# Altium footprint library DXPpcb.PCBLIB: 575 footprints (part 6 of 36)
Each footprint in its own frame and in the unit in brackets; x right, y up, seen from the top. Pads: shape width x height; smd on the part's side, far side on the other; paste and mask are expansions set on the pad; w line width, h text height; cw(c..) or ccw(c..) is an arc to the next point about the centre after c.
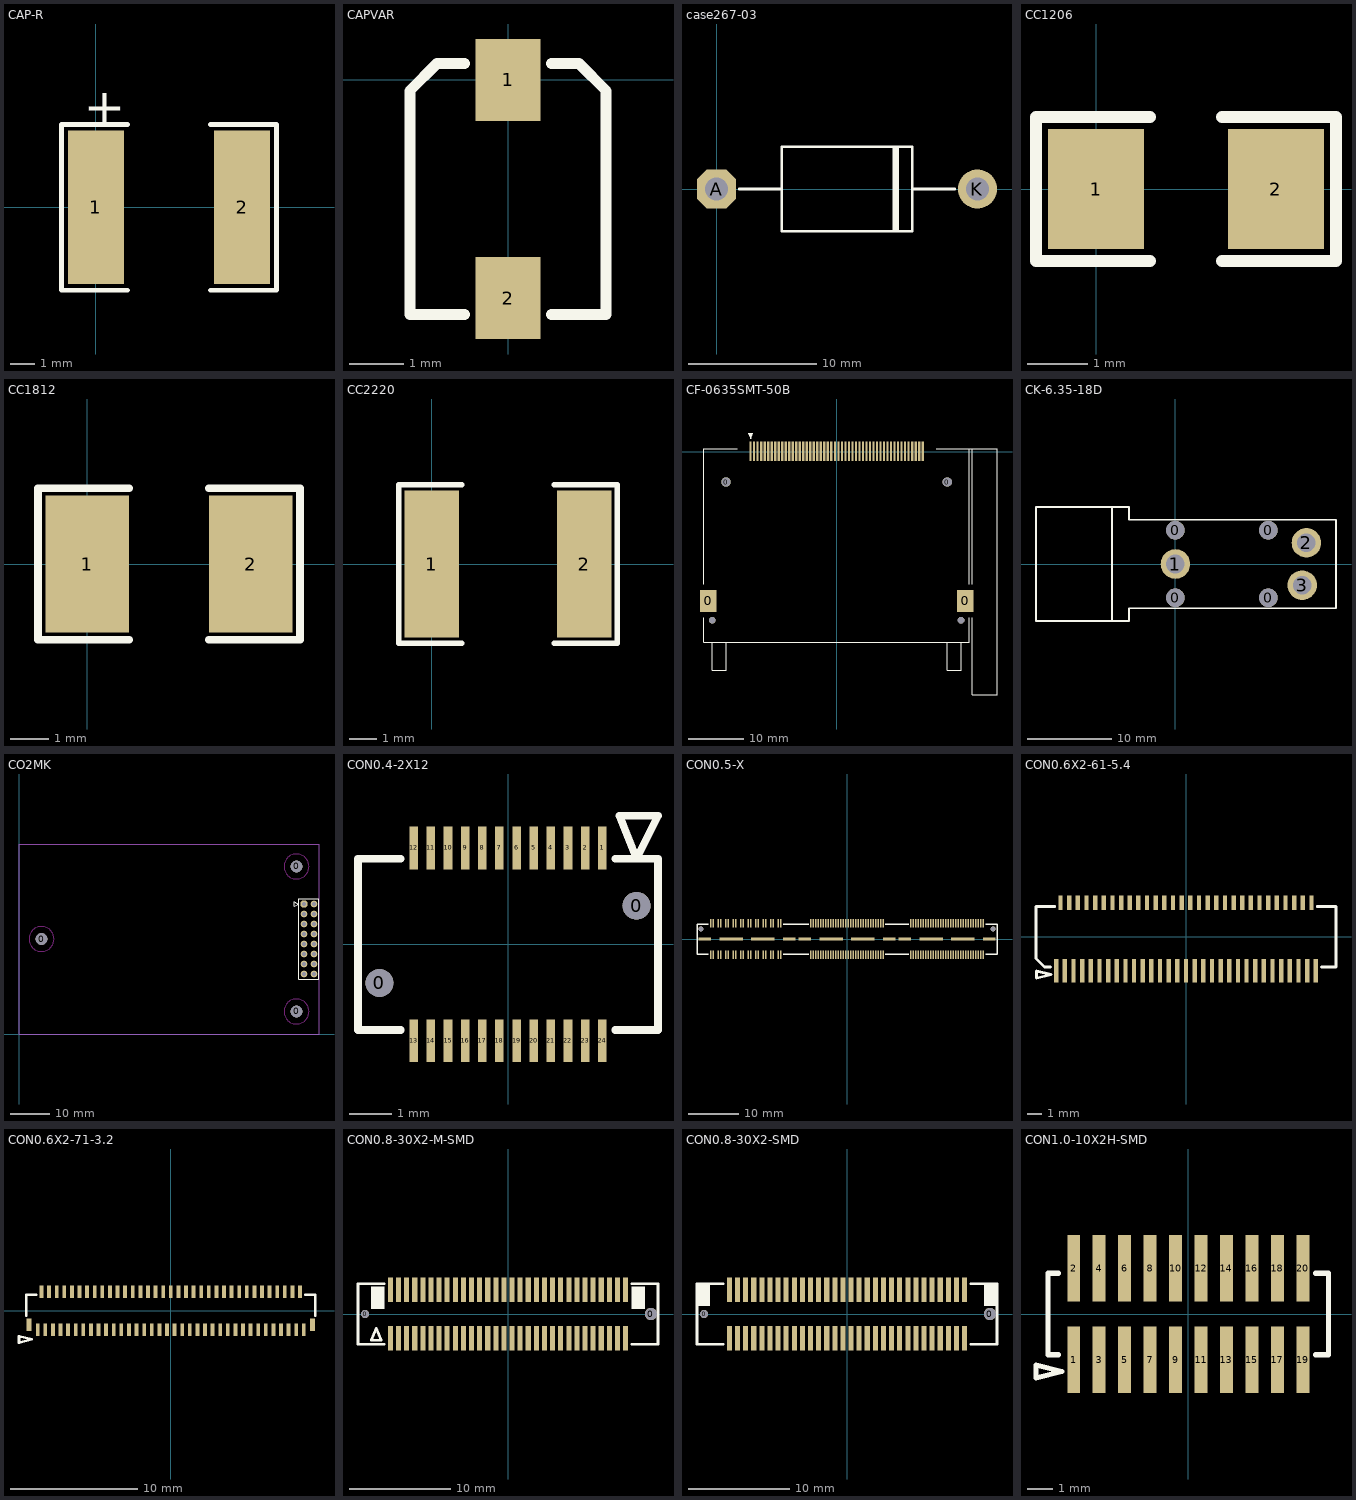
[diagram p5: the footprints below, top view; thin cyan lines are the x and y axes]

## CAP-R [mm]
pads (2):
  rect 2.3x6.3 smd: 1(0,0) 2(6,0)
TopOverlay:
  lines w0.2: 1.3,-3.4 -1.4,-3.4 -1.4,3.4 1.3,3.4 ; 4.7,-3.4 7.4,-3.4 7.4,3.4 4.7,3.4
  text "+" at -0.5,3.4 h1.5

## CAPVAR [mm]
pads (2):
  rect 1.2x1.5 smd: 1(0,0) 2(0,-4)
TopOverlay:
  lines w0.2: -0.8,-4.3 -1.8,-4.3 -1.8,-0.2 -1.3,0.3 -0.8,0.3 ; 0.8,-4.3 1.8,-4.3 1.8,-0.2 1.3,0.3 0.8,0.3

## case267-03 [mil]
pads (2):
  oct 120x120 hole 70: A(0,0)
  round 120 hole 70: K(800,0)
TopOverlay:
  rectangle: 540,-130 560,130
  lines w7.87: 70,0 200,0 ; 600,0 730,0 ; 200,-130 200,130 600,130 600,-130 200,-130

## CC1206 [mm]
pads (2):
  rect 1.6x2 smd: 1(0,0) 2(3,0)
TopOverlay:
  lines w0.2: 0.9,-1.2 -1,-1.2 -1,1.2 0.9,1.2 ; 2.1,-1.2 4,-1.2 4,1.2 2.1,1.2

## CC1812 [mm]
pads (2):
  rect 2.2x3.6 smd: 1(0,0) 2(4.3,0)
TopOverlay:
  lines w0.2: 1.1,-2 -1.3,-2 -1.3,2 1.1,2 ; 3.2,-2 5.6,-2 5.6,2 3.2,2

## CC2220 [mm]
pads (2):
  rect 2x5.4 smd: 1(0,0) 2(5.6,0)
TopOverlay:
  lines w0.2: 1.1,-2.9 -1.2,-2.9 -1.2,2.9 1.1,2.9 ; 4.5,-2.9 6.8,-2.9 6.8,2.9 4.5,2.9

## CF-0635SMT-50B [mil]
pads (56):
  rect 118.11x157.48 smd: 0(-915.35,-1062.99) 0(915.35,-1062.99)
  round 47.24 hole 47.24: 0(-885.83,-1200.79) 0(885.83,-1200.79)
  round 66.93 hole 66.93: 0(-787.4,-216.54) 0(787.4,-216.54)
  rect 16x138 smd: 1(-612.5,3.12) 2(-562.5,3.13) 3(-512.5,3.13) 4(-462.5,3.13) 5(-412.5,3.13) 6(-362.5,3.13) 7(-312.5,3.13) 8(-262.5,3.13) 9(-212.5,3.13) 10(-162.5,3.13) 11(-112.5,3.13) 12(-62.5,3.13) 13(-12.5,3.13) 14(37.5,3.13) 15(87.5,3.13) 16(137.5,3.13) 17(187.5,3.13) 18(237.5,3.13) 19(287.5,3.13) 20(337.5,3.13) 21(387.5,3.13) 22(437.5,3.13) 23(487.5,3.13) 24(537.5,3.13) 25(587.5,3.13) 26(-587.5,3.13) 27(-537.5,3.13) 28(-487.5,3.13) 29(-437.5,3.13) 30(-387.5,3.13) 31(-337.5,3.13) 32(-287.5,3.13) 33(-237.5,3.13) 34(-187.5,3.13) 35(-137.5,3.13) 36(-87.5,3.13) 37(-37.5,3.13) 38(12.5,3.13) 39(62.5,3.13) 40(112.5,3.13) 41(162.5,3.13) 42(212.5,3.13) 43(262.5,3.13) 44(312.5,3.13) 45(362.5,3.13) 46(412.5,3.13) 47(462.5,3.13) 48(512.5,3.13) 49(562.5,3.13) 50(612.5,3.12)
TopOverlay:
  lines w7.87: -944.88,-1181.1 -944.88,-1358.27 944.88,-1358.27 944.88,-1181.1 ; -944.88,-944.88 -944.88,19.68 -708.66,19.68 ; -885.83,-1358.27 -885.83,-1555.12 -787.4,-1555.12 -787.4,-1358.27 ; -620.37,131.87 -616.44,108.24 ; -612.5,131.87 -612.5,92.5 ; -608.56,112.18 -604.63,131.87 ; 708.66,19.68 944.88,19.68 ; 787.4,-1358.27 787.4,-1555.12 885.83,-1555.12 885.83,-1358.27 ; 944.88,-944.88 944.88,19.68 ; 964.57,-1181.1 964.57,-1732.28 1141.73,-1732.28 1141.73,19.68 944.88,19.68 ; 964.57,-944.88 964.57,19.68 ; -612.5,92.5 -596.75,131.87 -628.25,131.87 -612.5,92.5

## CK-6.35-18D [mm]
pads (7):
  round 2.2 hole 2.2: 0(0,-4) 0(0,4) 0(11,-4) 0(11,4)
  round 3.5 hole 2.2: 1(0,0) 2(15.5,2.5) 3(15,-2.5)
TopOverlay:
  lines w0.2: -7.5,-6.75 -7.5,6.75 ; -1.5,-0.5 -1,-0.5 -1,0.5 -1.5,0.5 ; -16.5,-6.75 -16.5,6.75 -5.5,6.75 -5.5,5.25 19,5.25 19,-5.25 -5.5,-5.25 -5.5,-6.75 -16.5,-6.75

## CO2MK [mm]
pads (19):
  round 3 hole 3: 0(5.715,24.13) 0(70.485,5.715) 0(70.485,42.545)
  oct 1.7x1.7 hole 1: 1(72.39,33.02)
  round 1.7 hole 1: 2(74.93,33.02) 3(72.39,30.48) 4(74.93,30.48) 5(72.39,27.94) 6(74.93,27.94) 7(72.39,25.4) 8(74.93,25.4) 9(72.39,22.86) 10(74.93,22.86) 11(72.39,20.32) 12(74.93,20.32) 13(72.39,17.78) 14(74.93,17.78) 15(72.39,15.24) 16(74.93,15.24)
TopOverlay:
  lines w0.2: 69.85,32.512 70.866,33.02 69.85,33.528 69.85,32.512 ; 71.09,13.94 76.19,13.94 76.19,34.32 71.09,34.32 71.09,13.94
KeepOutLayer:
  circle w0.2: c5.715,24.13 r3.175
  circle w0.2: c70.485,5.715 r3.175
  circle w0.2: c70.485,42.545 r3.175
Mechanical3:
  lines w0.2: 0,0 76.2,0 76.2,48.26 0,48.26 0,0

## CON0.4-2X12 [mm]
pads (26):
  round 0.65 hole 0.65: 0(-3,-0.9) 0(3,0.9)
  rect 0.2x1 smd: 1(2.2,2.25) 2(1.8,2.25) 3(1.4,2.25) 4(1,2.25) 5(0.6,2.25) 6(0.2,2.25) 7(-0.2,2.25) 8(-0.6,2.25) 9(-1,2.25) 10(-1.4,2.25) 11(-1.8,2.25) 12(-2.2,2.25) 13(-2.2,-2.25) 14(-1.8,-2.25) 15(-1.4,-2.25) 16(-1,-2.25) 17(-0.6,-2.25) 18(-0.2,-2.25) 19(0.2,-2.25) 20(0.6,-2.25) 21(1,-2.25) 22(1.4,-2.25) 23(1.8,-2.25) 24(2.2,-2.25)
TopOverlay:
  lines w0.18: -2.5,-2 -3.5,-2 -3.5,2 -2.5,2 ; 2.5,-2 3.5,-2 3.5,2 2.5,2 ; 2.6,3 3,2 3.5,3 2.6,3

## CON0.5-X [mm]
pads (174):
  rect 0.3x1.7 smd: 1(-27.25,3.15) 2(-27.25,-3.15) 3(-26.75,3.15) 4(-26.75,-3.15) 5(-25.75,3.15) 6(-25.75,-3.15) 7(-25.25,3.15) 8(-25.25,-3.15) 9(-24.25,3.15) 10(-24.25,-3.15) 11(-23.75,3.15) 12(-23.75,-3.15) 13(-22.75,3.15) 14(-22.75,-3.15) 15(-22.25,3.15) 16(-22.25,-3.15) 17(-21.25,3.15) 18(-21.25,-3.15) 19(-20.75,3.15) 20(-20.75,-3.15) 21(-19.75,3.15) 22(-19.75,-3.15) 23(-19.25,3.15) 24(-19.25,-3.15) 25(-18.25,3.15) 26(-18.25,-3.15) 27(-17.75,3.15) 28(-17.75,-3.15) 29(-16.75,3.15) 30(-16.75,-3.15) 31(-16.25,3.15) 32(-16.25,-3.15) 33(-15.25,3.15) 34(-15.25,-3.15) 35(-14.75,3.15) 36(-14.75,-3.15) 37(-13.75,3.15) 38(-13.75,-3.15) 39(-13.25,3.15) 40(-13.25,-3.15) 41(-7.25,3.15) 42(-7.25,-3.15) 43(-6.75,3.15) 44(-6.75,-3.15) 45(-6.25,3.15) 46(-6.25,-3.15) 47(-5.75,3.15) 48(-5.75,-3.15) 49(-5.25,3.15) 50(-5.25,-3.15) 51(-4.75,3.15) 52(-4.75,-3.15) 53(-4.25,3.15) 54(-4.25,-3.15) 55(-3.75,3.15) 56(-3.75,-3.15) 57(-3.25,3.15) 58(-3.25,-3.15) 59(-2.75,3.15) 60(-2.75,-3.15) 61(-2.25,3.15) 62(-2.25,-3.15) 63(-1.75,3.15) 64(-1.75,-3.15) 65(-1.25,3.15) 66(-1.25,-3.15) 67(-0.75,3.15) 68(-0.75,-3.15) 69(-0.25,3.15) 70(-0.25,-3.15) 71(0.25,3.15) 72(0.25,-3.15) 73(0.75,3.15) 74(0.75,-3.15) 75(1.25,3.15) 76(1.25,-3.15) 77(1.75,3.15) 78(1.75,-3.15) 79(2.25,3.15) 80(2.25,-3.15) 81(2.75,3.15) 82(2.75,-3.15) 83(3.25,3.15) 84(3.25,-3.15) 85(3.75,3.15) 86(3.75,-3.15) 87(4.25,3.15) 88(4.25,-3.15) 89(4.75,3.15) 90(4.75,-3.15) 91(5.25,3.15) 92(5.25,-3.15) 93(5.75,3.15) 94(5.75,-3.15) 95(6.25,3.15) 96(6.25,-3.15) 97(6.75,3.15) 98(6.75,-3.15) 99(7.25,3.15) 100(7.25,-3.15) 101(12.75,3.15) 102(12.75,-3.15) 103(13.25,3.15) 104(13.25,-3.15) 105(13.75,3.15) 106(13.75,-3.15) 107(14.25,3.15) 108(14.25,-3.15) 109(14.75,3.15) 110(14.75,-3.15) 111(15.25,3.15) 112(15.25,-3.15) 113(15.75,3.15) 114(15.75,-3.15) 115(16.25,3.15) 116(16.25,-3.15) 117(16.75,3.15) 118(16.75,-3.15) 119(17.25,3.15) 120(17.25,-3.15) 121(17.75,3.15) 122(17.75,-3.15) 123(18.25,3.15) 124(18.25,-3.15) 125(18.75,3.15) 126(18.75,-3.15) 127(19.25,3.15) 128(19.25,-3.15) 129(19.75,3.15) 130(19.75,-3.15) 131(20.25,3.15) 132(20.25,-3.15) 133(20.75,3.15) 134(20.75,-3.15) 135(21.25,3.15) 136(21.25,-3.15) 137(21.75,3.15) 138(21.75,-3.15) 139(22.25,3.15) 140(22.25,-3.15) 141(22.75,3.15) 142(22.75,-3.15) 143(23.25,3.15) 144(23.25,-3.15) 145(23.75,3.15) 146(23.75,-3.15) 147(24.25,3.15) 148(24.25,-3.15) 149(24.75,3.15) 150(24.75,-3.15) 151(25.25,3.15) 152(25.25,-3.15) 153(25.75,3.15) 154(25.75,-3.15) 155(26.25,3.15) 156(26.25,-3.15) 157(26.75,3.15) 158(26.75,-3.15) 159(27.25,3.15) 160(27.25,-3.15)
  rect 2.54x0.64 smd: 161(-28.445,0) 164(-11.555,0) 165(-8.445,0) 168(8.445,0) 169(11.555,0) 172(28.445,0)
  rect 4.7x0.64 smd: 162(-23.175,0) 163(-16.825,0) 166(-3.175,0) 167(3.175,0) 170(16.825,0) 171(23.175,0)
  round 1 hole 1: 173(-29.24,2.03) 174(29.24,2.03)
TopOverlay:
  lines w0.254: -27.8,-3 -30,-3 -30,3 -27.8,3 ; -12.8,-3 -7.7,-3 ; -12.8,3 -7.7,3 ; 7.7,-3 12.3,-3 ; 7.7,3 12.3,3 ; 27.8,-3 30,-3 30,3 27.8,3

## CON0.6X2-61-5.4 [mm]
pads (61):
  rect 0.3x1.6 smd: 1(-9,-2.35) 3(-8.4,-2.35) 5(-7.8,-2.35) 7(-7.2,-2.35) 9(-6.6,-2.35) 11(-6,-2.35) 13(-5.4,-2.35) 15(-4.8,-2.35) 17(-4.2,-2.35) 19(-3.6,-2.35) 21(-3,-2.35) 23(-2.4,-2.35) 25(-1.8,-2.35) 27(-1.2,-2.35) 29(-0.6,-2.35) 31(0,-2.35) 33(0.6,-2.35) 35(1.2,-2.35) 37(1.8,-2.35) 39(2.4,-2.35) 41(3,-2.35) 43(3.6,-2.35) 45(4.2,-2.35) 47(4.8,-2.35) 49(5.4,-2.35) 51(6,-2.35) 53(6.6,-2.35) 55(7.2,-2.35) 57(7.8,-2.35) 59(8.4,-2.35) 61(9,-2.35)
  rect 0.3x1 smd: 2(-8.7,2.35) 4(-8.1,2.35) 6(-7.5,2.35) 8(-6.9,2.35) 10(-6.3,2.35) 12(-5.7,2.35) 14(-5.1,2.35) 16(-4.5,2.35) 18(-3.9,2.35) 20(-3.3,2.35) 22(-2.7,2.35) 24(-2.1,2.35) 26(-1.5,2.35) 28(-0.9,2.35) 30(-0.3,2.35) 32(0.3,2.35) 34(0.9,2.35) 36(1.5,2.35) 38(2.1,2.35) 40(2.7,2.35) 42(3.3,2.35) 44(3.9,2.35) 46(4.5,2.35) 48(5.1,2.35) 50(5.7,2.35) 52(6.3,2.35) 54(6.9,2.35) 56(7.5,2.35) 58(8.1,2.35) 60(8.7,2.35)
TopOverlay:
  lines w0.2: -9.4,-2.1 -9.8,-2.1 -10.4,-1.5 -10.4,2.1 -9.1,2.1 ; 9.1,2.1 10.4,2.1 10.4,-2.1 9.4,-2.1 ; -10.378,-2.866 -9.362,-2.612 -10.378,-2.358 -10.378,-2.866

## CON0.6X2-71-3.2 [mm]
pads (73):
  rect 0.4x1 smd: 0(-11.2,-1.1) 0(11.2,-1.1)
  rect 0.3x1 smd: 1(-10.5,-1.5) 2(-10.2,1.5) 3(-9.9,-1.5) 4(-9.6,1.5) 5(-9.3,-1.5) 6(-9,1.5) 7(-8.7,-1.5) 8(-8.4,1.5) 9(-8.1,-1.5) 10(-7.8,1.5) 11(-7.5,-1.5) 12(-7.2,1.5) 13(-6.9,-1.5) 14(-6.6,1.5) 15(-6.3,-1.5) 16(-6,1.5) 17(-5.7,-1.5) 18(-5.4,1.5) 19(-5.1,-1.5) 20(-4.8,1.5) 21(-4.5,-1.5) 22(-4.2,1.5) 23(-3.9,-1.5) 24(-3.6,1.5) 25(-3.3,-1.5) 26(-3,1.5) 27(-2.7,-1.5) 28(-2.4,1.5) 29(-2.1,-1.5) 30(-1.8,1.5) 31(-1.5,-1.5) 32(-1.2,1.5) 33(-0.9,-1.5) 34(-0.6,1.5) 35(-0.3,-1.5) 36(0,1.5) 37(0.3,-1.5) 38(0.6,1.5) 39(0.9,-1.5) 40(1.2,1.5) 41(1.5,-1.5) 42(1.8,1.5) 43(2.1,-1.5) 44(2.4,1.5) 45(2.7,-1.5) 46(3,1.5) 47(3.3,-1.5) 48(3.6,1.5) 49(3.9,-1.5) 50(4.2,1.5) 51(4.5,-1.5) 52(4.8,1.5) 53(5.1,-1.5) 54(5.4,1.5) 55(5.7,-1.5) 56(6,1.5) 57(6.3,-1.5) 58(6.6,1.5) 59(6.9,-1.5) 60(7.2,1.5) 61(7.5,-1.5) 62(7.8,1.5) 63(8.1,-1.5) 64(8.4,1.5) 65(8.7,-1.5) 66(9,1.5) 67(9.3,-1.5) 68(9.6,1.5) 69(9.9,-1.5) 70(10.2,1.5) 71(10.5,-1.5)
TopOverlay:
  lines w0.2: -11.4,-0.4 -11.4,1.25 -10.6,1.25 ; 10.6,1.25 11.4,1.25 11.4,-0.4 ; -11.978,-2.516 -11.978,-2.008 -10.962,-2.262 -11.978,-2.516

## CON0.8-30X2-M-SMD [mm]
pads (62):
  round 0.8 hole 0.8: 0(-14.1,0)
  round 1.2 hole 1.2: 0(14.1,0)
  rect 0.5x2.4 smd: 1(-11.6,-2.4) 2(-11.6,2.4) 3(-10.8,-2.4) 4(-10.8,2.4) 5(-10,-2.4) 6(-10,2.4) 7(-9.2,-2.4) 8(-9.2,2.4) 9(-8.4,-2.4) 10(-8.4,2.4) 11(-7.6,-2.4) 12(-7.6,2.4) 13(-6.8,-2.4) 14(-6.8,2.4) 15(-6,-2.4) 16(-6,2.4) 17(-5.2,-2.4) 18(-5.2,2.4) 19(-4.4,-2.4) 20(-4.4,2.4) 21(-3.6,-2.4) 22(-3.6,2.4) 23(-2.8,-2.4) 24(-2.8,2.4) 25(-2,-2.4) 26(-2,2.4) 27(-1.2,-2.4) 28(-1.2,2.4) 29(-0.4,-2.4) 30(-0.4,2.4) 31(0.4,-2.4) 32(0.4,2.4) 33(1.2,-2.4) 34(1.2,2.4) 35(2,-2.4) 36(2,2.4) 37(2.8,-2.4) 38(2.8,2.4) 39(3.6,-2.4) 40(3.6,2.4) 41(4.4,-2.4) 42(4.4,2.4) 43(5.2,-2.4) 44(5.2,2.4) 45(6,-2.4) 46(6,2.4) 47(6.8,-2.4) 48(6.8,2.4) 49(7.6,-2.4) 50(7.6,2.4) 51(8.4,-2.4) 52(8.4,2.4) 53(9.2,-2.4) 54(9.2,2.4) 55(10,-2.4) 56(10,2.4) 57(10.8,-2.4) 58(10.8,2.4) 59(11.6,-2.4) 60(11.6,2.4)
TopOverlay:
  rectangle: 12.2,0.5 13.5,2.7
  rectangle: -13.5,0.5 -12.2,2.7
  lines w0.254: -12.2,-3 -14.8,-3 -14.8,3 -12.2,3 ; 12.2,-3 14.8,-3 14.8,3 12.2,3 ; -13.5,-2.6 -12.5,-2.6 -13,-1.4 -13.5,-2.6

## CON0.8-30X2-SMD [mm]
pads (62):
  round 0.8 hole 0.8: 0(-14.1,0)
  round 1.2 hole 1.2: 0(14.1,0)
  rect 0.5x2.4 smd: 1(-11.6,2.4) 2(-11.6,-2.4) 3(-10.8,2.4) 4(-10.8,-2.4) 5(-10,2.4) 6(-10,-2.4) 7(-9.2,2.4) 8(-9.2,-2.4) 9(-8.4,2.4) 10(-8.4,-2.4) 11(-7.6,2.4) 12(-7.6,-2.4) 13(-6.8,2.4) 14(-6.8,-2.4) 15(-6,2.4) 16(-6,-2.4) 17(-5.2,2.4) 18(-5.2,-2.4) 19(-4.4,2.4) 20(-4.4,-2.4) 21(-3.6,2.4) 22(-3.6,-2.4) 23(-2.8,2.4) 24(-2.8,-2.4) 25(-2,2.4) 26(-2,-2.4) 27(-1.2,2.4) 28(-1.2,-2.4) 29(-0.4,2.4) 30(-0.4,-2.4) 31(0.4,2.4) 32(0.4,-2.4) 33(1.2,2.4) 34(1.2,-2.4) 35(2,2.4) 36(2,-2.4) 37(2.8,2.4) 38(2.8,-2.4) 39(3.6,2.4) 40(3.6,-2.4) 41(4.4,2.4) 42(4.4,-2.4) 43(5.2,2.4) 44(5.2,-2.4) 45(6,2.4) 46(6,-2.4) 47(6.8,2.4) 48(6.8,-2.4) 49(7.6,2.4) 50(7.6,-2.4) 51(8.4,2.4) 52(8.4,-2.4) 53(9.2,2.4) 54(9.2,-2.4) 55(10,2.4) 56(10,-2.4) 57(10.8,2.4) 58(10.8,-2.4) 59(11.6,2.4) 60(11.6,-2.4)
TopOverlay:
  rectangle: -14.8,0.8 -13.5,3
  rectangle: 13.5,0.8 14.8,3
  lines w0.254: -12.2,-3 -14.8,-3 -14.8,3 -12.2,3 ; 12.2,-3 14.8,-3 14.8,3 12.2,3

## CON1.0-10X2H-SMD [mm]
pads (20):
  rect 0.5x2.6 smd: 1(-4.5,-1.8) 2(-4.5,1.8) 3(-3.5,-1.8) 4(-3.5,1.8) 5(-2.5,-1.8) 6(-2.5,1.8) 7(-1.5,-1.8) 8(-1.5,1.8) 9(-0.5,-1.8) 10(-0.5,1.8) 11(0.5,-1.8) 12(0.5,1.8) 13(1.5,-1.8) 14(1.5,1.8) 15(2.5,-1.8) 16(2.5,1.8) 17(3.5,-1.8) 18(3.5,1.8) 19(4.5,-1.8) 20(4.5,1.8)
TopOverlay:
  lines w0.2: -5.1,-1.6 -5.5,-1.6 -5.5,1.6 -5.1,1.6 ; 5,-1.6 5.5,-1.6 5.5,1.6 5,1.6 ; -5.978,-2.516 -5.978,-2.008 -4.962,-2.262 -5.978,-2.516